# EAGLE library part W25Q16BVSSIG (library RT5350F_OLinuXino_Rev_B)
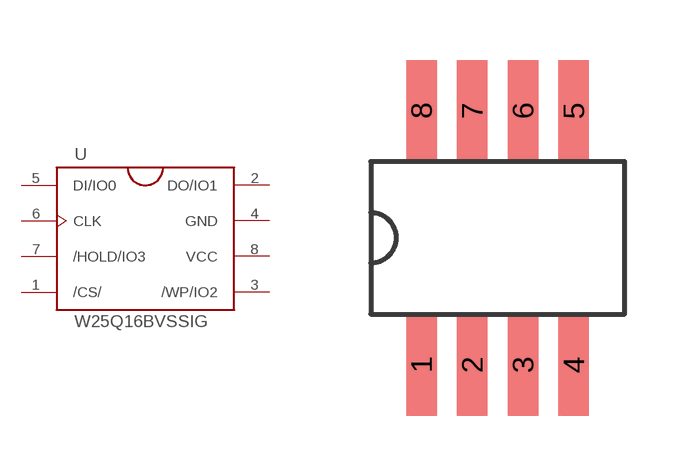
[diagram p1: symbol with the pads of SO8_ATMEL_FLASH; footprint SO8_ATMEL_FLASH]

Designator prefix U

## W25Q16BVSSIG  [SO8_ATMEL_FLASH]
1  /CS/  in
2  DO/IO1
3  /WP/IO2  in
4  GND  pwr
5  DI/IO0
6  CLK  in
7  /HOLD/IO3  in
8  VCC  pwr

## Footprint SO8_ATMEL_FLASH (pad centres in mm)
smd 0.762 x 2.54: 1 -1.905,-3.175; 2 -0.635,-3.175; 3 0.635,-3.175; 4 1.905,-3.175; 5 1.905,3.175; 6 0.635,3.175; 7 -0.635,3.175; 8 -1.905,3.175